# Altium footprint library 贴片.PcbLib: 161 footprints (part 2 of 11)
Each footprint in its own frame and in the unit in brackets; x right, y up, seen from the top. Pads: shape width x height; smd on the part's side, far side on the other; paste and mask are expansions set on the pad; w line width, h text height; cw(c..) or ccw(c..) is an arc to the next point about the centre after c.
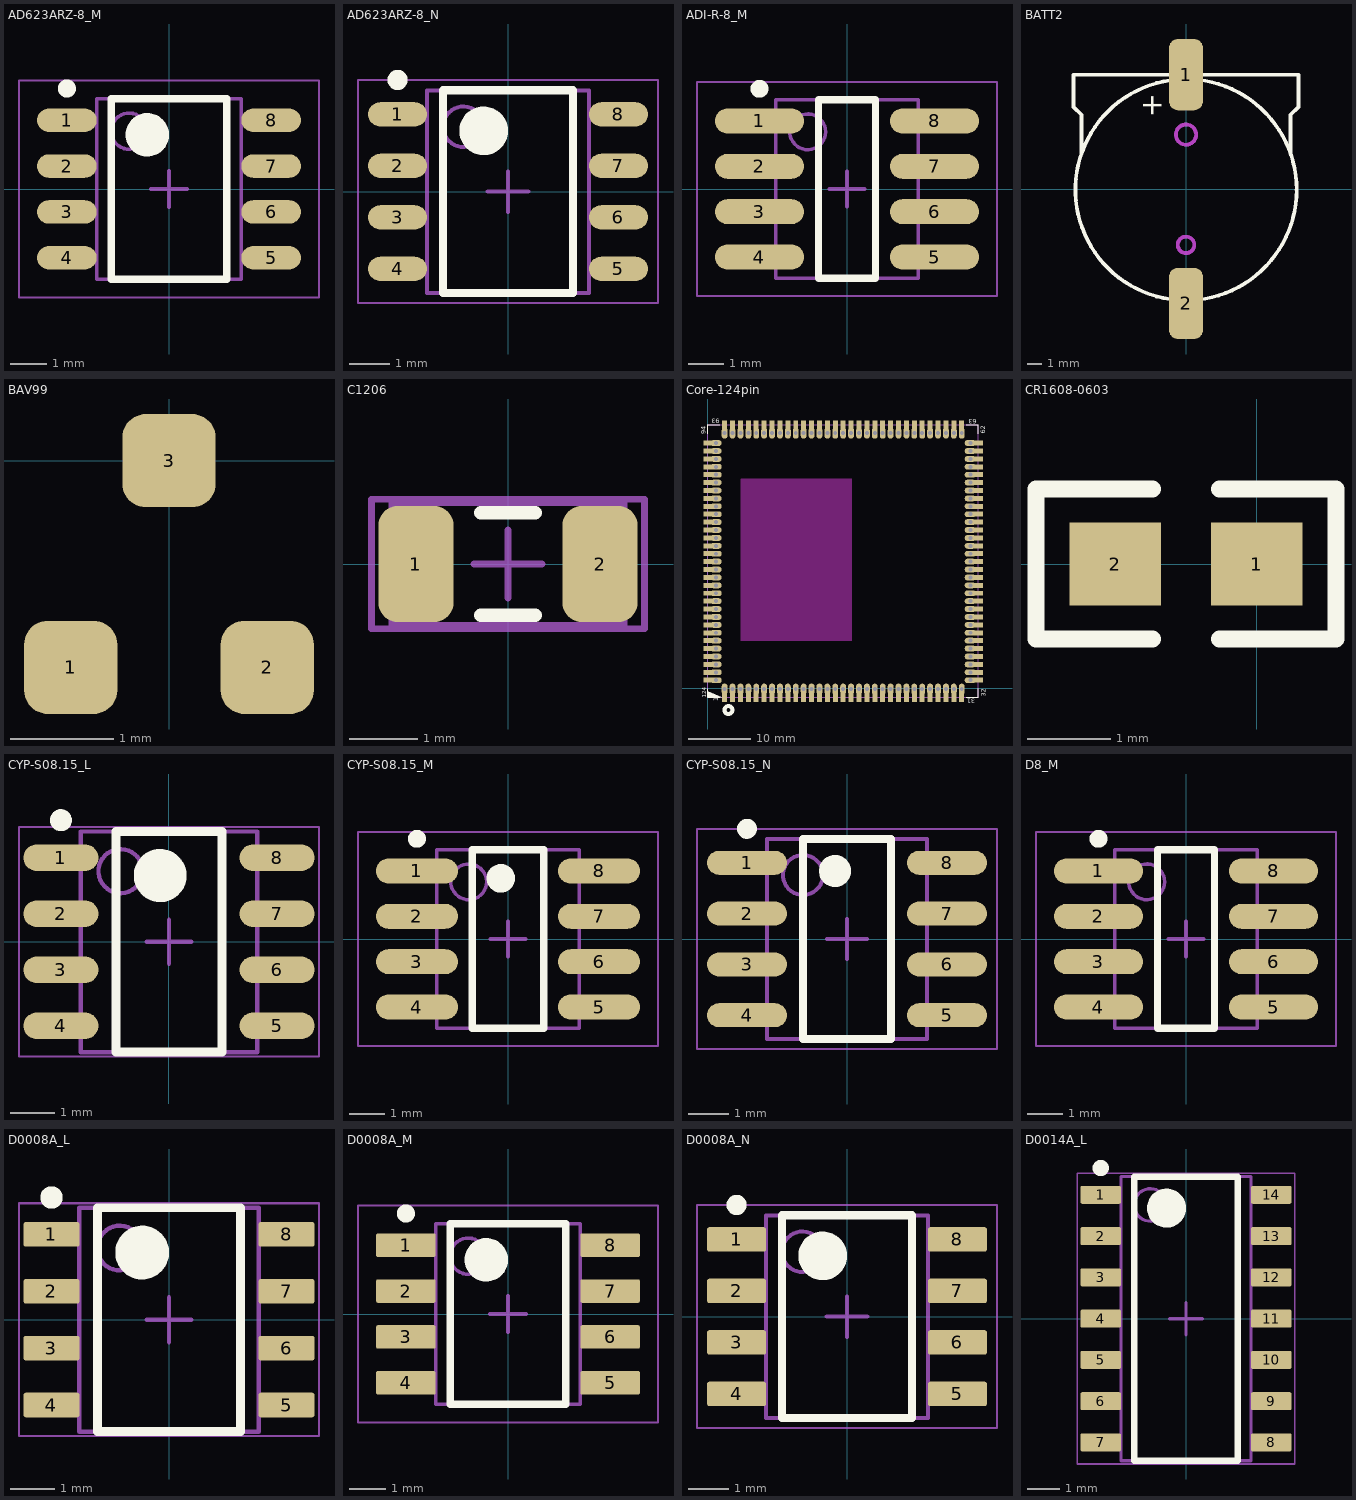
[diagram p1: the footprints below, top view; thin cyan lines are the x and y axes]

## AD623ARZ-8_M [mm] "SOIC, 8-Leads, Body 5x4mm, Pitch 1.27mm, IPC Low Density"
height 1.75
pads (8):
  oval 1.65x0.65 smd: 1(-2.825,1.905) 2(-2.825,0.635) 3(-2.825,-0.635) 4(-2.825,-1.905) 5(2.825,-1.905) 6(2.825,-0.635) 7(2.825,0.635) 8(2.825,1.905)
Top Overlay:
  circle w0.6: c-0.6,1.5 r0.3
  circle w0.25: c-2.825,2.78 r0.125
  lines w0.2: -1.6,-2.5 1.6,-2.5 1.6,2.5 -1.6,2.5 -1.6,-2.5
Mechanical 13:
  circle w0.1: c-1.1,1.6 r0.5
  lines w0.1: -2,-2.5 2,-2.5 2,2.5 -2,2.5 -2,-2.5
Mechanical 15:
  lines w0.05: -4.15,-3 4.15,-3 4.15,3 -4.15,3 -4.15,-3
  lines w0.1: -0.5,0 0.5,0 ; 0,-0.5 0,0.5
3D body: height 1.75, standoff 0.1, extent -2,-2.5 2,2.5

## AD623ARZ-8_N [mm] "SOIC, 8-Leads, Body 5x4mm, Pitch 1.27mm, IPC Medium Density"
height 1.75
pads (8):
  oval 1.45x0.6 smd: 1(-2.725,1.905) 2(-2.725,0.635) 3(-2.725,-0.635) 4(-2.725,-1.905) 5(2.725,-1.905) 6(2.725,-0.635) 7(2.725,0.635) 8(2.725,1.905)
Top Overlay:
  circle w0.25: c-2.725,2.755 r0.125
  circle w0.6: c-0.6,1.5 r0.3
  lines w0.2: -1.6,-2.5 -1.6,2.5 1.6,2.5 1.6,-2.5 -1.6,-2.5
Mechanical 13:
  circle w0.1: c-1.1,1.6 r0.5
  lines w0.1: -2,-2.5 -2,2.5 2,2.5 2,-2.5 -2,-2.5
Mechanical 15:
  lines w0.05: -3.7,-2.75 -3.7,2.75 3.7,2.75 3.7,-2.75 -3.7,-2.75
  lines w0.1: -0.5,0 0.5,0 ; 0,-0.5 0,0.5
3D body: height 1.75, standoff 0.1, extent -2,-2.5 2,2.5

## ADI-R-8_M [mm] "SOIC, 8-Leads, Body 4.9x3.9mm, Pitch 1.27mm, IPC Low Density"
height 1.75
pads (8):
  oval 2.5x0.7 smd: 1(-2.45,1.905) 2(-2.45,0.635) 3(-2.45,-0.635) 4(-2.45,-1.905) 5(2.45,-1.905) 6(2.45,-0.635) 7(2.45,0.635) 8(2.45,1.905)
Top Overlay:
  circle w0.25: c-2.45,2.805 r0.125
  lines w0.2: -0.8,-2.5 -0.8,2.5 0.8,2.5 0.8,-2.5 -0.8,-2.5
Mechanical 13:
  circle w0.1: c-1.1,1.6 r0.5
  lines w0.1: -2,-2.5 -2,2.5 2,2.5 2,-2.5 -2,-2.5
Mechanical 15:
  lines w0.05: -4.2,-3 -4.2,3 4.2,3 4.2,-3 -4.2,-3
  lines w0.1: -0.5,0 0.5,0 ; 0,-0.5 0,0.5
3D body: height 1.75, standoff 0.1, extent -2,-2.5 2,2.5

## BATT2 [mil]
pads (2):
  rrect50% 90x190 smd: 1(0,305) 2(0,-305)
Top Overlay:
  circle w10: c0,-2 r295
  lines w10: -279,95 -279,198 -300,219 -300,305 0,305 300,305 300,219 279,198 279,95
  text "+" at -114,256 h56
Keep-Out Layer:
  circle w10: c0,-149 r22
  circle w10: c0,145 r27
Mechanical 1:
  circle w10: c0,-149 r22
  circle w10: c0,145 r27

## BAV99 [mm]
pads (3):
  rrect50% 0.9x0.9 smd: 1(-0.95,-2) 2(0.95,-2) 3(0,0)

## C1206 [mm] "Chip Capacitor, Body 3.2x1.6mm, IPC High Density"
height 1.3
pads (2):
  rrect50% 1.1x1.7 smd: 1(-1.35,0) 2(1.35,0)
Top Overlay:
  lines w0.2: -0.4,-0.75 0.4,-0.75 ; -0.4,0.75 0.4,0.75
Mechanical 13:
  lines w0.1: -1.7,-0.9 1.7,-0.9 1.7,0.9 -1.7,0.9 -1.7,-0.9
Mechanical 15:
  lines w0.1: -0.5,0 0.5,0 ; 0,-0.5 0,0.5 ; -2,-0.95 2,-0.95 2,0.95 -2,0.95 -2,-0.95
3D body: height 1.3, standoff 0, extent -1.7,-0.9 1.7,0.9

## Core-124pin [mm]
height 0.2
pads (248):
  rect 0.8x1.5 all layers, no hole mask+0.05: 1(2.718,-1.475) 2(3.988,-1.475) 3(5.258,-1.475) 4(6.528,-1.475) 5(7.798,-1.475) 6(9.068,-1.475) 7(10.338,-1.475) 8(11.608,-1.475) 9(12.878,-1.475) 10(14.148,-1.475) 11(15.418,-1.475) 12(16.688,-1.475) 13(17.958,-1.475) 14(19.228,-1.475) 15(20.498,-1.475) 16(21.768,-1.475) 17(23.038,-1.475) 18(24.308,-1.475) 19(25.578,-1.475) 20(26.848,-1.475) 21(28.118,-1.475) 22(29.388,-1.475) 23(30.658,-1.475) 24(31.928,-1.475) 25(33.198,-1.475) 26(34.468,-1.475) 27(35.738,-1.475) 28(37.008,-1.475) 29(38.278,-1.475) 30(39.548,-1.475) 31(40.818,-1.475) 63(40.818,42.273) 64(39.548,42.273) 65(38.278,42.273) 66(37.008,42.273) 67(35.738,42.273) 68(34.468,42.273) 69(33.198,42.273) 70(31.928,42.273) 71(30.658,42.273) 72(29.388,42.273) 73(28.118,42.273) 74(26.848,42.273) 75(25.578,42.273) 76(24.308,42.273) 77(23.038,42.273) 78(21.768,42.273) 79(20.498,42.273) 80(19.228,42.273) 81(17.958,42.273) 82(16.688,42.273) 83(15.418,42.273) 84(14.148,42.273) 85(12.878,42.273) 86(11.608,42.273) 87(10.338,42.273) 88(9.068,42.273) 89(7.798,42.273) 90(6.528,42.273) 91(5.258,42.273) 92(3.988,42.273) 93(2.718,42.273)
  oval 0.94x1.8 hole 0.635 mask+0.05: 1(2.718,-0.175) 2(3.988,-0.175) 3(5.258,-0.175) 4(6.528,-0.175) 5(7.798,-0.175) 6(9.068,-0.175) 7(10.338,-0.175) 8(11.608,-0.175) 9(12.878,-0.175) 10(14.148,-0.175) 11(15.418,-0.175) 12(16.688,-0.175) 13(17.958,-0.175) 14(19.228,-0.175) 15(20.498,-0.175) 16(21.768,-0.175) 17(23.038,-0.175) 18(24.308,-0.175) 19(25.578,-0.175) 20(26.848,-0.175) 21(28.118,-0.175) 22(29.388,-0.175) 23(30.658,-0.175) 24(31.928,-0.175) 25(33.198,-0.175) 26(34.468,-0.175) 27(35.738,-0.175) 28(37.008,-0.175) 29(38.278,-0.175) 30(39.548,-0.175) 31(40.818,-0.175) 63(40.818,40.973) 64(39.548,40.973) 65(38.278,40.973) 66(37.008,40.973) 67(35.738,40.973) 68(34.468,40.973) 69(33.198,40.973) 70(31.928,40.973) 71(30.658,40.973) 72(29.388,40.973) 73(28.118,40.973) 74(26.848,40.973) 75(25.578,40.973) 76(24.308,40.973) 77(23.038,40.973) 78(21.768,40.973) 79(20.498,40.973) 80(19.228,40.973) 81(17.958,40.973) 82(16.688,40.973) 83(15.418,40.973) 84(14.148,40.973) 85(12.878,40.973) 86(11.608,40.973) 87(10.338,40.973) 88(9.068,40.973) 89(7.798,40.973) 90(6.528,40.973) 91(5.258,40.973) 92(3.988,40.973) 93(2.718,40.973)
  oval 1.8x0.94 hole 0.635 mask+0.05: 32(42.192,1.27) 33(42.192,2.54) 34(42.192,3.81) 35(42.192,5.08) 36(42.192,6.35) 37(42.192,7.62) 38(42.192,8.89) 39(42.192,10.16) 40(42.192,11.43) 41(42.192,12.7) 42(42.192,13.97) 43(42.192,15.24) 44(42.192,16.51) 46(42.192,19.05) 47(42.192,20.32) 48(42.192,21.59) 49(42.192,22.86) 50(42.192,24.13) 51(42.192,25.4) 52(42.192,26.67) 53(42.192,27.94) 54(42.192,29.21) 55(42.192,30.48) 56(42.192,31.75) 57(42.192,33.02) 58(42.192,34.29) 59(42.192,35.56) 60(42.192,36.83) 61(42.192,38.1) 62(42.192,39.37) 94(1.346,39.37) 95(1.344,38.1) 96(1.344,36.83) 97(1.344,35.56) 98(1.344,34.29) 99(1.344,33.02) 100(1.344,31.75) 101(1.344,30.48) 102(1.344,29.21) 103(1.344,27.94) 104(1.344,26.67) 105(1.344,25.4) 106(1.344,24.13) 107(1.344,22.86) 108(1.344,21.59) 109(1.344,20.32) 110(1.344,19.05) 111(1.344,17.78) 112(1.344,16.51) 113(1.344,15.24) 114(1.344,13.97) 115(1.344,12.7) 116(1.344,11.43) 117(1.344,10.16) 118(1.344,8.89) 119(1.344,7.62) 120(1.344,6.35) 121(1.344,5.08) 122(1.344,3.81) 123(1.344,2.54) 124(1.344,1.27)
  rect 1.5x0.8 all layers, no hole mask+0.05: 32(43.489,1.27) 33(43.489,2.54) 34(43.489,3.81) 35(43.489,5.08) 36(43.489,6.35) 37(43.489,7.62) 38(43.489,8.89) 39(43.489,10.16) 40(43.489,11.43) 41(43.489,12.7) 42(43.489,13.97) 43(43.489,15.24) 44(43.489,16.51) 45(43.489,17.78) 46(43.489,19.05) 47(43.489,20.32) 48(43.489,21.59) 49(43.489,22.86) 50(43.489,24.13) 51(43.489,25.4) 52(43.489,26.67) 53(43.489,27.94) 54(43.489,29.21) 55(43.489,30.48) 56(43.489,31.75) 57(43.489,33.02) 58(43.489,34.29) 59(43.489,35.56) 60(43.489,36.83) 61(43.489,38.1) 62(43.489,39.37) 94(0.049,39.37) 95(0.049,38.1) 96(0.049,36.83) 97(0.049,35.56) 98(0.049,34.29) 99(0.049,33.02) 100(0.049,31.75) 101(0.049,30.48) 102(0.049,29.21) 103(0.049,27.94) 104(0.049,26.67) 105(0.049,25.4) 106(0.049,24.13) 107(0.049,22.86) 108(0.049,21.59) 109(0.049,20.32) 110(0.049,19.05) 111(0.049,17.78) 112(0.049,16.51) 113(0.049,15.24) 114(0.049,13.97) 115(0.049,12.7) 116(0.049,11.43) 117(0.049,10.16) 118(0.049,8.89) 119(0.049,7.62) 120(0.049,6.35) 121(0.049,5.08) 122(0.049,3.81) 123(0.049,2.54) 124(0.049,1.27)
  oval 1.8x0.95 hole 0.635 mask+0.05: 45(42.192,17.78)
Top Overlay:
  circle w0.635: c3.328,-3.528 r0.635
  region: 0.023,-1.496 0.023,-0.484 2.261,-1.496 1.034,-1.496
  lines w0.127: 0.023,-0.103 0.023,-1.496 1.93,-1.496 ; 0.023,40.893 0.023,42.285 1.93,42.285 ; 41.577,42.285 43.485,42.285 43.485,40.893 ; 41.58,-1.496 43.487,-1.496 43.487,-0.103
  text "31" at 42.977,-1.703 h0.76
  text "32" at 44.704,-1.424 h0.76
  text "62" at 44.625,40.867 h0.76
  text "63" at 43.254,43.204 h0.76
  text "93" at 1.905,43.28 h0.76
  text "94" at -0.305,40.791 h0.76
  text "1" at 1.702,-2.084 h0.76
  text "124" at -0.229,-1.576 h0.64
Keep-Out Layer:
  board cut-out: 5.334,33.655 23.114,33.655 23.114,7.62 5.334,7.62
Mechanical 15:
  lines w0.127: 0.023,-1.496 43.487,-1.496 43.487,42.285 0.023,42.285 0.023,-1.496

## CR1608-0603 [mm]
pads (2):
  rect 1.1x1 smd: 1(0,0) 2(-1.7,0)
Top Overlay:
  lines w0.2: -1.25,-0.9 -2.65,-0.9 -2.65,0.9 -1.25,0.9 ; -0.45,-0.9 0.95,-0.9 0.95,0.9 -0.45,0.9

## CYP-S08.15_L [mm] "SOIC, 8-Leads, Body 4.9x3.9mm, Pitch 1.27mm, IPC High Density"
height 1.73
pads (8):
  oval 1.7x0.6 smd: 1(-2.45,1.905) 2(-2.45,0.635) 3(-2.45,-0.635) 4(-2.45,-1.905) 5(2.45,-1.905) 6(2.45,-0.635) 7(2.45,0.635) 8(2.45,1.905)
Top Overlay:
  circle w0.6: c-0.2,1.5 r0.3
  circle w0.25: c-2.45,2.755 r0.125
  lines w0.2: -1.2,-2.5 1.2,-2.5 1.2,2.5 -1.2,2.5 -1.2,-2.5
Mechanical 13:
  circle w0.1: c-1.1,1.6 r0.5
  lines w0.1: -2,-2.5 2,-2.5 2,2.5 -2,2.5 -2,-2.5
Mechanical 15:
  lines w0.05: -3.4,-2.6 3.4,-2.6 3.4,2.6 -3.4,2.6 -3.4,-2.6
  lines w0.1: -0.5,0 0.5,0 ; 0,-0.5 0,0.5
3D body: height 1.73, standoff 0.1, extent -2,-2.5 2,2.5

## CYP-S08.15_M [mm] "SOIC, 8-Leads, Body 4.9x3.9mm, Pitch 1.27mm, IPC Low Density"
height 1.73
pads (8):
  oval 2.3x0.7 smd: 1(-2.55,1.905) 2(-2.55,0.635) 3(-2.55,-0.635) 4(-2.55,-1.905) 5(2.55,-1.905) 6(2.55,-0.635) 7(2.55,0.635) 8(2.55,1.905)
Top Overlay:
  circle w0.25: c-2.55,2.805 r0.125
  circle w0.4: c-0.2,1.7 r0.2
  lines w0.2: -1,-2.5 -1,2.5 1,2.5 1,-2.5 -1,-2.5
Mechanical 13:
  circle w0.1: c-1.1,1.6 r0.5
  lines w0.1: -2,-2.5 -2,2.5 2,2.5 2,-2.5 -2,-2.5
Mechanical 15:
  lines w0.05: -4.2,-3 -4.2,3 4.2,3 4.2,-3 -4.2,-3
  lines w0.1: -0.5,0 0.5,0 ; 0,-0.5 0,0.5
3D body: height 1.73, standoff 0.1, extent -2,-2.5 2,2.5

## CYP-S08.15_N [mm] "SOIC, 8-Leads, Body 4.9x3.9mm, Pitch 1.27mm, IPC Medium Density"
height 1.73
pads (8):
  oval 2x0.6 smd: 1(-2.5,1.905) 2(-2.5,0.635) 3(-2.5,-0.635) 4(-2.5,-1.905) 5(2.5,-1.905) 6(2.5,-0.635) 7(2.5,0.635) 8(2.5,1.905)
Top Overlay:
  circle w0.25: c-2.5,2.755 r0.125
  circle w0.4: c-0.3,1.7 r0.2
  lines w0.2: -1.1,-2.5 -1.1,2.5 1.1,2.5 1.1,-2.5 -1.1,-2.5
Mechanical 13:
  circle w0.1: c-1.1,1.6 r0.5
  lines w0.1: -2,-2.5 -2,2.5 2,2.5 2,-2.5 -2,-2.5
Mechanical 15:
  lines w0.05: -3.75,-2.75 -3.75,2.75 3.75,2.75 3.75,-2.75 -3.75,-2.75
  lines w0.1: -0.5,0 0.5,0 ; 0,-0.5 0,0.5
3D body: height 1.73, standoff 0.1, extent -2,-2.5 2,2.5

## D8_M [mm] "SOIC, 8-Leads, Body 4.9x3.9mm, Pitch 1.27mm, IPC Low Density"
height 1.75
pads (8):
  oval 2.5x0.7 smd: 1(-2.45,1.905) 2(-2.45,0.635) 3(-2.45,-0.635) 4(-2.45,-1.905) 5(2.45,-1.905) 6(2.45,-0.635) 7(2.45,0.635) 8(2.45,1.905)
Top Overlay:
  circle w0.25: c-2.45,2.805 r0.125
  lines w0.2: -0.8,-2.5 -0.8,2.5 0.8,2.5 0.8,-2.5 -0.8,-2.5
Mechanical 13:
  circle w0.1: c-1.1,1.6 r0.5
  lines w0.1: -2,-2.5 -2,2.5 2,2.5 2,-2.5 -2,-2.5
Mechanical 15:
  lines w0.05: -4.2,-3 -4.2,3 4.2,3 4.2,-3 -4.2,-3
  lines w0.1: -0.5,0 0.5,0 ; 0,-0.5 0,0.5
3D body: height 1.75, standoff 0.1, extent -2,-2.5 2,2.5

## D0008A_L [mm] "SOIC, 8-Leads, Body 5x4mm, Pitch 1.27mm, IPC High Density"
height 1.75
pads (8):
  rrect18% 1.25x0.55 smd: 1(-2.625,1.905) 2(-2.625,0.635) 3(-2.625,-0.635) 4(-2.625,-1.905) 5(2.625,-1.905) 6(2.625,-0.635) 7(2.625,0.635) 8(2.625,1.905)
Top Overlay:
  circle w0.25: c-2.625,2.73 r0.125
  circle w0.6: c-0.6,1.5 r0.3
  lines w0.2: -1.6,-2.5 -1.6,2.5 1.6,2.5 1.6,-2.5 -1.6,-2.5
Mechanical 1:
  text ".Designator" at -1.397,-0.254 h0.6
Mechanical 13:
  circle w0.1: c-1.1,1.6 r0.5
  lines w0.1: -2,-2.5 -2,2.5 2,2.5 2,-2.5 -2,-2.5
Mechanical 15:
  lines w0.05: -3.35,-2.6 -3.35,2.6 3.35,2.6 3.35,-2.6 -3.35,-2.6
  lines w0.1: -0.5,0 0.5,0 ; 0,-0.5 0,0.5
3D body: height 1.63, standoff 0, extent -3,-2.45 3,2.45

## D0008A_M [mm] "SOIC, 8-Leads, Body 5x4mm, Pitch 1.27mm, IPC Low Density"
height 1.75
pads (8):
  rrect15% 1.65x0.65 smd: 1(-2.825,1.905) 2(-2.825,0.635) 3(-2.825,-0.635) 4(-2.825,-1.905) 5(2.825,-1.905) 6(2.825,-0.635) 7(2.825,0.635) 8(2.825,1.905)
Top Overlay:
  circle w0.6: c-0.6,1.5 r0.3
  circle w0.25: c-2.825,2.78 r0.125
  lines w0.2: -1.6,-2.5 1.6,-2.5 1.6,2.5 -1.6,2.5 -1.6,-2.5
Mechanical 1:
  text ".Designator" at -1.397,-0.254 h0.6
Mechanical 13:
  circle w0.1: c-1.1,1.6 r0.5
  lines w0.1: -2,-2.5 2,-2.5 2,2.5 -2,2.5 -2,-2.5
Mechanical 15:
  lines w0.05: -4.15,-3 4.15,-3 4.15,3 -4.15,3 -4.15,-3
  lines w0.1: -0.5,0 0.5,0 ; 0,-0.5 0,0.5
3D body: height 1.63, standoff 0, extent -3,-2.45 3,2.45

## D0008A_N [mm] "SOIC, 8-Leads, Body 5x4mm, Pitch 1.27mm, IPC Medium Density"
height 1.75
pads (8):
  rrect17% 1.45x0.6 smd: 1(-2.725,1.905) 2(-2.725,0.635) 3(-2.725,-0.635) 4(-2.725,-1.905) 5(2.725,-1.905) 6(2.725,-0.635) 7(2.725,0.635) 8(2.725,1.905)
Top Overlay:
  circle w0.6: c-0.6,1.5 r0.3
  circle w0.25: c-2.725,2.755 r0.125
  lines w0.2: -1.6,-2.5 1.6,-2.5 1.6,2.5 -1.6,2.5 -1.6,-2.5
Mechanical 1:
  text ".Designator" at -1.397,-0.254 h0.6
Mechanical 13:
  circle w0.1: c-1.1,1.6 r0.5
  lines w0.1: -2,-2.5 2,-2.5 2,2.5 -2,2.5 -2,-2.5
Mechanical 15:
  lines w0.05: -3.7,-2.75 3.7,-2.75 3.7,2.75 -3.7,2.75 -3.7,-2.75
  lines w0.1: -0.5,0 0.5,0 ; 0,-0.5 0,0.5
3D body: height 1.63, standoff 0, extent -3,-2.45 3,2.45

## D0014A_L [mm] "SOIC, 14-Leads, Body 8.75x4mm, Pitch 1.27mm, IPC High Density"
height 1.75
pads (14):
  rrect18% 1.25x0.55 smd: 1(-2.625,3.81) 2(-2.625,2.54) 3(-2.625,1.27) 4(-2.625,0) 5(-2.625,-1.27) 6(-2.625,-2.54) 7(-2.625,-3.81) 8(2.625,-3.81) 9(2.625,-2.54) 10(2.625,-1.27) 11(2.625,0) 12(2.625,1.27) 13(2.625,2.54) 14(2.625,3.81)
Top Overlay:
  circle w0.6: c-0.6,3.4 r0.3
  circle w0.25: c-2.625,4.635 r0.125
  lines w0.2: -1.6,-4.375 1.6,-4.375 1.6,4.375 -1.6,4.375 -1.6,-4.375
Mechanical 1:
  text ".Designator" at -1.525,-0.275 h0.8
Mechanical 13:
  circle w0.1: c-1.1,3.5 r0.5
  lines w0.1: -2,-4.375 2,-4.375 2,4.375 -2,4.375 -2,-4.375
Mechanical 15:
  lines w0.05: -3.35,-4.475 3.35,-4.475 3.35,4.475 -3.35,4.475 -3.35,-4.475
  lines w0.1: -0.5,0 0.5,0 ; 0,-0.5 0,0.5
3D body: height 1.59, standoff -0.01, extent -3.023,-4.318 3.022,4.318